# EAGLE library part AD9714 (library CougsInSpace-IC-Conversion)
AD9714 - Dual 8b DAC
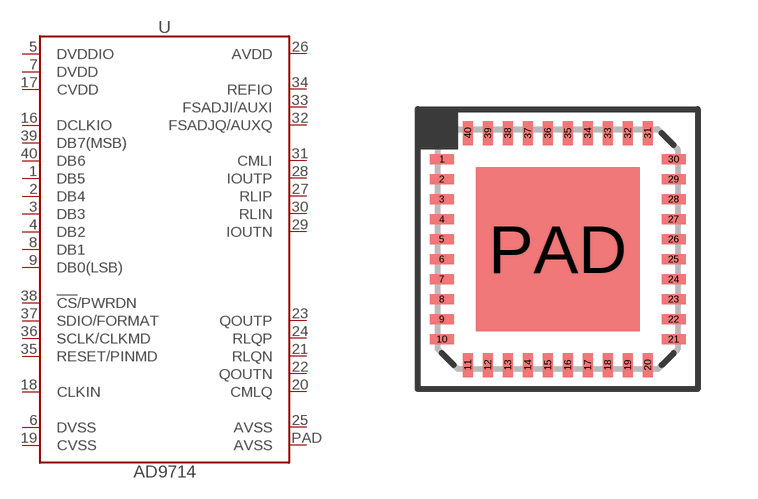
[diagram p4: symbol with the pads of QFN-40-6060; footprint QFN-40-6060]

Designator prefix U

## AD9714 (SKU: 27-0005; VALUE: AD9714)  [QFN-40-6060]
1  DB5  in
2  DB4  in
3  DB3  in
4  DB2  in
5  DVDDIO  pwr
6  DVSS  pwr
7  DVDD  pwr
8  DB1  in
9  DB0(LSB)  in
16  DCLKIO  in
17  CVDD  pwr
18  CLKIN  in
19  CVSS  pwr
20  CMLQ  in
21  RLQN  pas
22  QOUTN  out
23  QOUTP  out
24  RLQP  pas
25  AVSS  pwr
26  AVDD  pwr
27  RLIP  pas
28  IOUTP  out
29  IOUTN  out
30  RLIN  pas
31  CMLI  in
32  FSADJQ/AUXQ  pas
33  FSADJI/AUXI  pas
34  REFIO  pas
35  RESET/PINMD  in
36  SCLK/CLKMD  in
37  SDIO/FORMAT  in
38  !CS!/PWRDN  in
39  DB7(MSB)  in
40  DB6  in
PAD  AVSS  pwr

## Footprint QFN-40-6060 (pad centres in mm)
Quad Flat No-Leads (QFN) - 40 pins - 6.0 x 6.0 mm
smd 0.6 x 0.25: 1 -2.9,2.25; 2 -2.9,1.75; 3 -2.9,1.25; 4 -2.9,0.75; 5 -2.9,0.25; 6 -2.9,-0.25; 7 -2.9,-0.75; 8 -2.9,-1.25; 9 -2.9,-1.75; 10 -2.9,-2.25; 21 2.9,-2.25; 22 2.9,-1.75; 23 2.9,-1.25; 24 2.9,-0.75; 25 2.9,-0.25; 26 2.9,0.25; 27 2.9,0.75; 28 2.9,1.25; 29 2.9,1.75; 30 2.9,2.25
smd 0.25 x 0.6: 11 -2.25,-2.9; 12 -1.75,-2.9; 13 -1.25,-2.9; 14 -0.75,-2.9; 15 -0.25,-2.9; 16 0.25,-2.9; 17 0.75,-2.9; 18 1.25,-2.9; 19 1.75,-2.9; 20 2.25,-2.9; 31 2.25,2.9; 32 1.75,2.9; 33 1.25,2.9; 34 0.75,2.9; 35 0.25,2.9; 36 -0.25,2.9; 37 -0.75,2.9; 38 -1.25,2.9; 39 -1.75,2.9; 40 -2.25,2.9
smd 4.1 x 4.1: PAD 0,0